# Altium schematic symbol library Active-LED.SchLib: 16 symbols
Pins are listed as number, name and electrical type; pins without a type are passive.

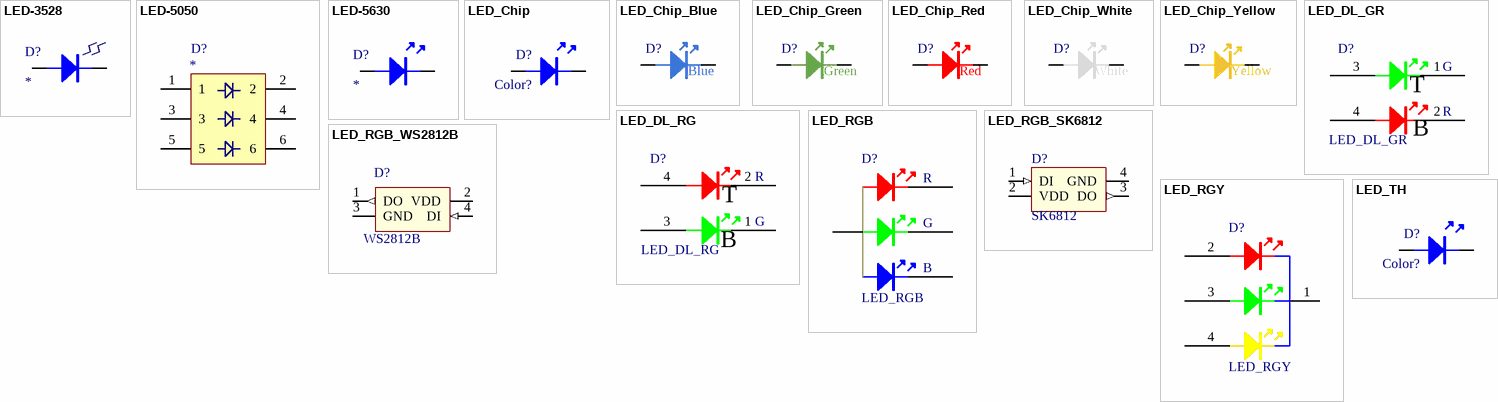
[diagram p0: symbols LED-3528 to LED_TH]

## LED-3528
designator D?
3528LED; Manufacturer_Name: *; Manufacturer_Part_Number: *
footprint LED-3528R
pins: A, K

## LED-5050
designator D?
三色LED; Manufacturer_Name: *; Manufacturer_Part_Number: *
footprint LED-5050W
pins: 1, 2, 3, 4, 5, 6

## LED-5630
designator D?
5630LED; Manufacturer_Name: *; Manufacturer_Part_Number: *
footprint LED-5630W
pins: A, K

## LED_Chip
designator D?, comment Color?
贴片LED; Manufacturer_Name: *; Manufacturer_Part_Number: *
footprint LED-0603-R (Chip Diode, 2-Leads, Body 1.55x0.80mm, IPC Medium Density)
footprint LED-0603-B (Chip Diode, 2-Leads, Body 1.55x0.80mm, IPC Medium Density)
footprint LED-0603-G (Chip Diode, 2-Leads, Body 1.55x0.80mm, IPC Medium Density)
footprint LED-0603-W (Chip Diode, 2-Leads, Body 1.55x0.80mm, IPC Medium Density)
footprint LED-0603-Y (Chip Diode, 2-Leads, Body 1.55x0.80mm, IPC Medium Density)
pins: A, K

## LED_Chip_Blue
designator D?, comment Blue
贴片LED; Manufacturer_Name: 国星光电; Manufacturer_Part_Number: NCD0603B1; LCSC: C84266
footprint LED-0603-B (EVERLIGHT(亿光) - 19-217/BHC-ZL1M2RY/3T - C72041)
footprint LED-0805-B
footprint LED-1206-B
footprint LED-1206-B-Reverse
pins: A, K

## LED_Chip_Green
designator D?, comment Green
贴片LED; Manufacturer_Name: XINGLIGHT(成兴光); Manufacturer_Part_Number: XL-1608UGC-04; LCSC: C965804
footprint LED-0603-G (EVERLIGHT(亿光) - 19-217/GHC-YR1S2/3T - C72043)
footprint LED-0805-G (KENTO - KT-0805G - C2297)
footprint LED-1206-G
footprint LED-1206-G-Reverse
pins: A, K

## LED_Chip_Red
designator D?, comment Red
贴片LED; Manufacturer_Name: KENTO; Manufacturer_Part_Number: KT-0603R; LCSC: C2286
footprint LED-0603-R (Chip Diode, 2-Leads, Body 1.55x0.80mm, IPC Medium Density)
footprint LED-0805-R (国星光电 - NCD0805R1 - C84256)
footprint LED-1206-R
footprint LED-1206-R-Reverse
pins: A, K

## LED_Chip_White
designator D?, comment White
贴片LED; Manufacturer_Name: KENTO; Manufacturer_Part_Number: KT-0603W; LCSC: C2290
footprint LED-0603-W (Chip KENTO - KT-0603W - C2290)
footprint LED-0805-W (KENTO - KT-0805W - C34499)
footprint LED-1206-W
footprint LED-1206-W-Reverse
footprint LED-SMD_XL-2810UWC (侧贴 白 XINGLIGHT(成兴光)   XL-2810UWC SMD,1.4x3.5mm)
footprint LED-SMD_XL-6028UWC-FB (6028 反贴 冷白 XINGLIGHT(成兴光) XL-6028UWC-FB)
pins: A, K

## LED_Chip_Yellow
designator D?, comment Yellow
贴片LED; Manufacturer_Name: 国星光电; Manufacturer_Part_Number: NCD0603Y1; LCSC: C84268
footprint LED-0603-Y (Chip Diode, 2-Leads, Body 1.55x0.80mm, IPC Medium Density)
footprint LED-0805-Y (KENTO - KT-0805Y - C2296)
footprint LED-1206-Y
footprint LED-1206-Y-Reverse
pins: A, K

## LED_DL_GR
designator D?
双层LED,上绿下红; Manufacturer_Name: *; Manufacturer_Part_Number: *; LCSC: C9900027516
footprint LED-TH-L-GR (双层LED 左正右负 上绿下红)
pins: 1, 2, 3, 4
text: G; T; R; B

## LED_DL_RG
designator D?
双层LED,上红下绿; Manufacturer_Name: 光贝; Manufacturer_Part_Number: LED_DL_RG; LCSC: C9900235237
footprint LED-TH-L-RG (双层LED 左正右负 上红下绿)
pins: 1, 2, 3, 4
text: R; T; G; B

## LED_RGB
designator D?
贴片0805， 深圳市追芯电子; Manufacturer_Name: *; Manufacturer_Part_Number: *
footprint 0805RGB
pins: 1, 2, 3, 4
text: R; G; B

## LED_RGB_SK6812
designator D?, comment SK6812
幻彩LED; Manufacturer_Name: 欧思科光电; Manufacturer_Part_Number: SK6812SIDE-A-RVS; LCSC: C2890037; Manufacturer_Name_1: *; Manufacturer_Part_Number_1: *
footprint LED-SMD_4P-4X1.6MM-SK6812SIDE-A (欧思科光电 K6812SIDE-A-RVS)
pins: 1 DI (in), 2 VDD (power), 3 DO (out), 4 GND (power)

## LED_RGB_WS2812B
designator D?, comment WS2812B
幻彩LED; Manufacturer_Name: XINGLIGHT(成兴光); Manufacturer_Part_Number: XL-1615RGBC-WS2812B; LCSC: C5349954; Manufacturer_Name_1: *; Manufacturer_Part_Number_1: *
footprint LED-SMD_4P-1.0X1.0MM-WS2812B (XINGLIGHT(成兴光)    XL-1010RGBC-WS2812B)
footprint LED-SMD_4P-1.6x1.5MM-WS2812B (XINGLIGHT(成兴光)   XL-1615RGBC-WS2812B)
pins: 1 DO (out), 2 VDD (power), 3 GND (power), 4 DI (in)

## LED_RGY
designator D?
RGY三色 LED; Manufacturer_Name: TUOZHAN(拓展光电); Manufacturer_Part_Number: P4-1615RGYTCA1-0.6T-C; LCSC: C2827305; Manufacturer_Name_1: *; Manufacturer_Part_Number_1: *
footprint LED-SMD_0606 (RGY 三色LED TUOZHAN(拓展光电) P4-1615RGYTCA1-0.6T-C)
pins: 1, 2, 3, 4

## LED_TH
designator D?, comment Color?
通孔LED; Manufacturer_Name: *; Manufacturer_Part_Number: *
footprint LED5-BLUE
footprint LED5-GRE
footprint LED5-RED
footprint LED5-YEL
footprint LED3-BLUE
footprint LED3-GRE
footprint LED3-RED
footprint LED3-YEL
footprint 1WLED
footprint LED-TH_L_Yellow (货套LED)
footprint LED-TH_L_Red (货套LED)
footprint LED-TH_L_Green (货套LED)
pins: A, K